# Altium integrated library USB_micro_AB_2040002-1.IntLib: 1 symbol
Pins are listed as number, name and electrical type; pins without a type are passive.

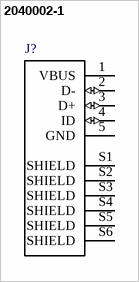
[diagram p0: symbol 2040002-1]

## 2040002-1
designator J?  (value not drawn)
Micro USB REC type B DIP 4 legs assy_Au_; MF: TE Connectivity; Centerline_Pitch: .65 mm[.025 in]; Product_Type: Connector; Number_of_Positions: 5; Package: None; Price: 1.28 USD; MP: 2040002-1; Availability: Good; SnapEDA_Link: https://www.snapeda.com/parts/2040002-1/TE%20Connectivity%20AMP%20Connectors/view-part/?ref=snap; Value: *
footprint TE_2040002-1_2040002-1(Primary)
pins: 1 VBUS (power), 2 D- (io), 3 D+ (io), 4 ID (io), 5 GND (power), S1 SHIELD (power), S2 SHIELD (power), S3 SHIELD (power), S4 SHIELD (power), S5 SHIELD (power), S6 SHIELD (power)